# Altium schematic symbol library Header IDC 10.SchLib: 1 symbol
Pins are listed as number, name and electrical type; pins without a type are passive.

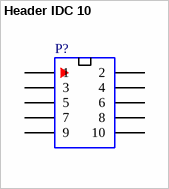
[diagram p0: symbol Header IDC 10]

## Header IDC 10
designator P?
Boxed/shrouded header, 2×5, 10-Pin (IDC)
pins: 1, 2, 3, 4, 5, 6, 7, 8, 9, 10